# Altium schematic symbol library DIODE - GENERIC.SchLib: 1 symbol
Pins are listed as number, name and electrical type; pins without a type are passive.

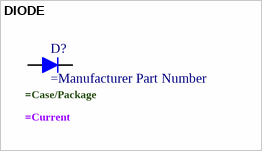
[diagram p0: symbol DIODE]

## DIODE
designator D?
Parameter 1: *; .Current: =Current; .Case/Package: =Case/Package
pins: A, K